# Altium footprint library XTAL-HC49.PcbLib: 1 footprints
Each footprint in its own frame and in the unit in brackets; x right, y up, seen from the top. Pads: shape width x height; smd on the part's side, far side on the other; paste and mask are expansions set on the pad; w line width, h text height; cw(c..) or ccw(c..) is an arc to the next point about the centre after c.
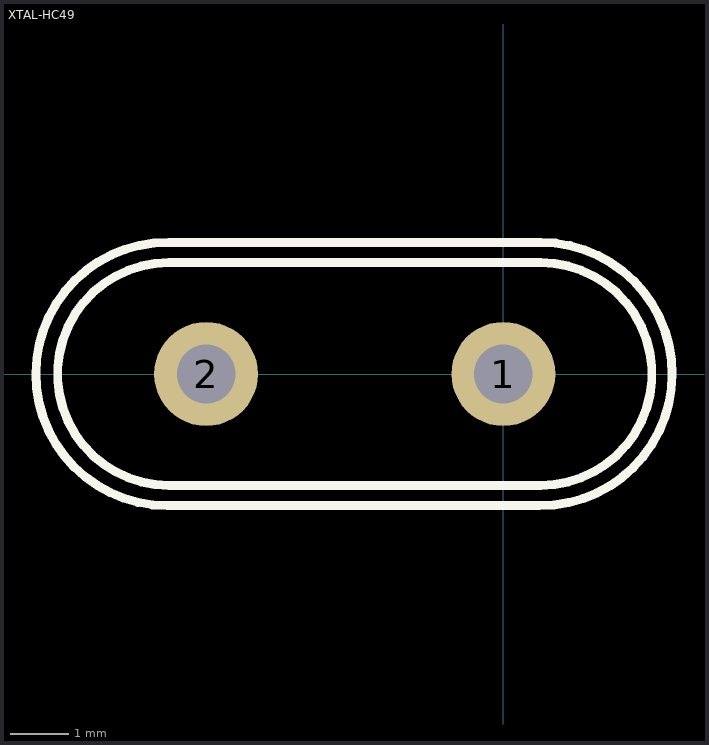
[diagram p0: the footprint, top view; thin cyan lines are the x and y axes]

## XTAL-HC49 [mil]
pads (2):
  round 70 hole 39.37: 1(0,0) 2(-200,0)
Top Overlay:
  lines w6: -226,-88.58 cw(c-226,0) -225.09,88.58 25,88.58 cw(c25,0) 24.07,-88.58 -226,-88.58 ; -225,-75 cw(c-225,0) -225,75 25,75 cw(c25,0) 25,-75 -225,-75